# EAGLE library part MIKROBUS_SMD_BLACK (library mikroBUS_SMD_BLACK)
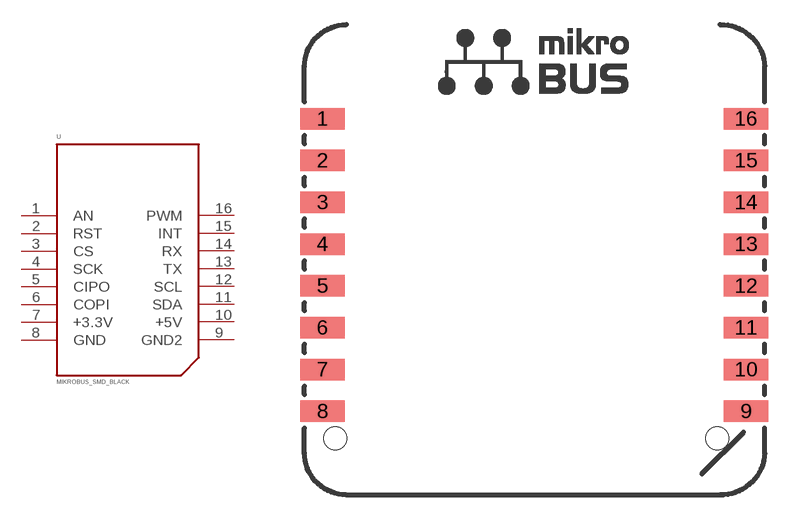
[diagram p0: symbol with the pads of MIKROBUS_SMD_BLACK; footprint MIKROBUS_SMD_BLACK]

Designator prefix -

## MIKROBUS_SMD_BLACK1 (PROD_ID: CONN-16267)  [MIKROBUS_SMD_BLACK]
1  AN
2  RST
3  CS
4  SCK
5  CIPO
6  COPI
7  +3.3V
8  GND
9  GND2
10  +5V
11  SDA
12  SCL
13  TX
14  RX
15  INT
16  PWM

## Footprint MIKROBUS_SMD_BLACK (pad centres in mm)
smd 2.7 x 1.3: 1 -12.7,8.89; 2 -12.7,6.35; 3 -12.7,3.81; 4 -12.7,1.27; 5 -12.7,-1.27; 6 -12.7,-3.81; 7 -12.7,-6.35; 8 -12.7,-8.89; 9 13.02,-8.89; 10 13.02,-6.35; 11 13.02,-3.81; 12 13.02,-1.27; 13 13.02,1.27; 14 13.02,3.81; 15 13.02,6.35; 16 13.02,8.89
hole 1.4 at -11.914,-10.541
hole 1.4 at 11.286,-10.541